# Altium integrated library TI Interface Display.IntLib: 133 symbols (part 4 of 16)
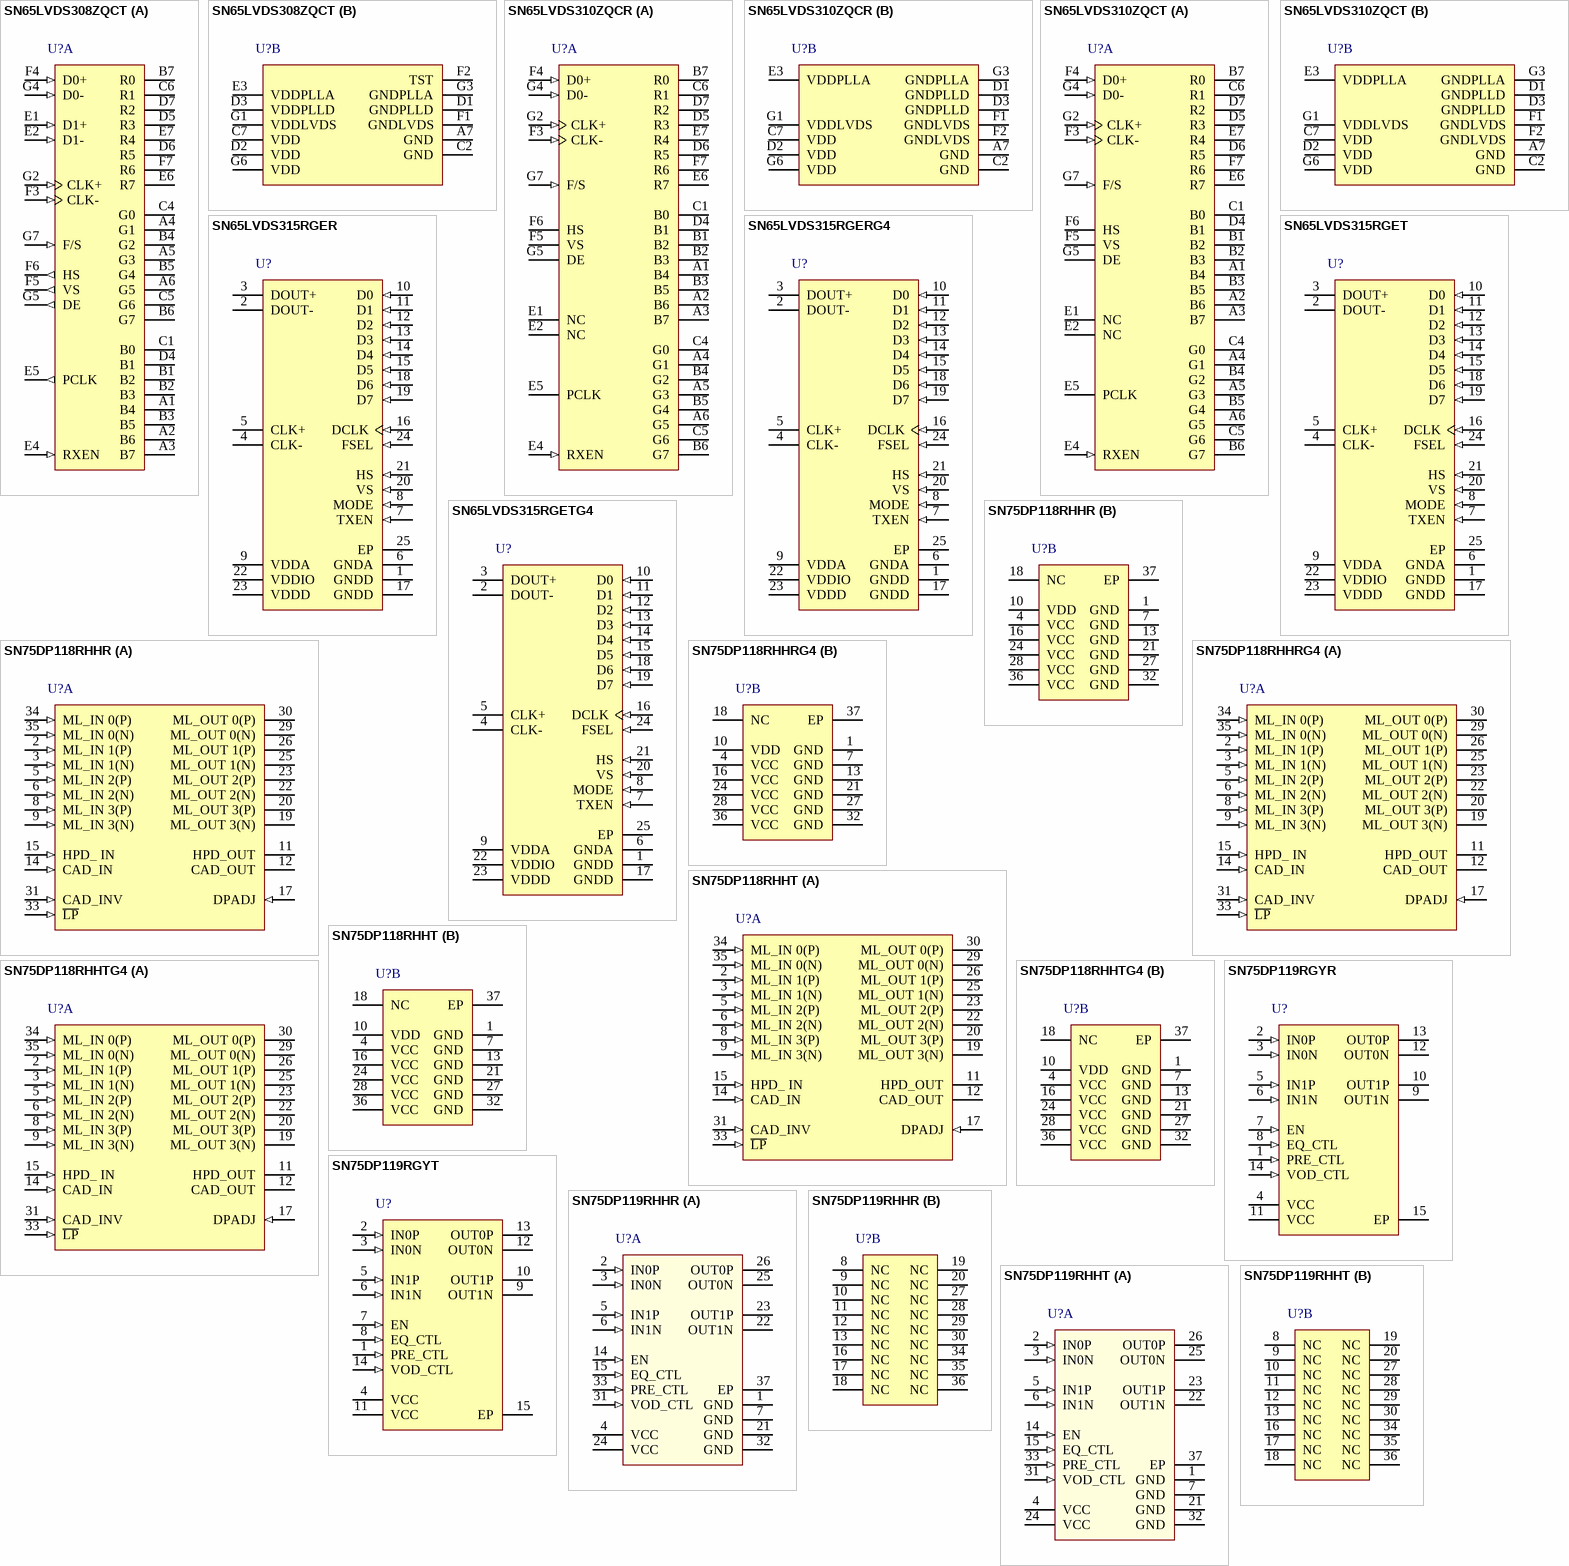
[diagram p17: symbols SN65LVDS308ZQCT to SN75DP119RHHT]

## SN65LVDS310ZQCR
designator U?
405 MB/s QVGA-HVGA 27-Bit Display Serial Interface Receiver with 1 Receiver Channel, 1.8 V, -40 to +85 degC, 48-pin BGA MICROSTAR JUNIOR (ZQC), Green (RoHS & no Sb/Br); Manufacturer: Texas Instruments; PartNumber: SN65LVDS310ZQCR; Data Throughput(MB/s): 405; Number of Parallel Outputs: 27; PLL Frequency(MHz): 4 - 15; Serial Data Receiver Channels: 1; SubFamily: FlatLink (LVDS for LCD); Supply Voltage(s)(V): 1.8; Type of Line Circuit: subLVDS; DatasheetVersion: SLLS836; PackageVersion: revA, Sep-2002; PackageReference: ZQC48; PackageDescription: 48-Ball Plastic Ball Grid Array, 4 x 4 mm Body, 0.5 mm Pitch, Pb-Free; Supplier 1: Digi-Key; Supplier Part Number 1: 296-21963-2-ND; Supplier 2: Digi-Key; Supplier Part Number 2: 296-21963-1-ND; Supplier 3: Digi-Key; Supplier Part Number 3: 296-21963-6-ND; Supplier 4: Newark; Supplier Part Number 4: 46M6903; Supplier 5: Mouser; Supplier Part Number 5: 595-SN65LVDS310ZQCR; Eco-Plan: Green (RoHS & no Sb/Br); Mounting Technology: Surface Mount; Code_JEDEC: MO-225; ComponentLink1Description: Datasheet; ComponentLink1URL: http://www.ti.com/general/docs/lit/getliterature.tsp?genericPartNumber=SN65LVDS310&fileType=pdf; ComponentLink2Description: URL Link1; ComponentLink2URL: SamplesURL:http://www.ti.com/product/sn65lvds310#samples
footprint ZQC48 (BGA, 48-Leads, Body 4x4mm, Pitch 0.5mm)
part A pins: A1 B4 (hiz) "Blue-pixel data", A2 B6 (hiz) "Blue-pixel data", A3 B7 (hiz) "Blue-pixel data", A4 G1 (hiz) "Green-pixel data", A5 G3 (hiz) "Green-pixel data", A6 G5 (hiz) "Green-pixel data", B1 B2 (hiz) "Blue-pixel data", B2 B3 (hiz) "Blue-pixel data", B3 B5 (hiz) "Blue-pixel data", B4 G2 (hiz) "Green-pixel data", B5 G4 (hiz) "Green-pixel data", B6 G7 (hiz) "Green-pixel data", B7 R0 (hiz) "Red-pixel data", C1 B0 (hiz) "Blue-pixel data", C4 G0 (hiz) "Green-pixel data", C5 G6 (hiz) "Green-pixel data", C6 R1 (hiz) "Red-pixel data", D4 B1 (hiz) "Blue-pixel data", D5 R3 (hiz) "Red-pixel data", D6 R5 (hiz) "Red-pixel data", D7 R2 (hiz) "Red-pixel data", E1 NC "No connection.", E2 NC "No connection.", E4 RXEN (in) "Disables the CMOS drivers and turns off the PLL, putting device in shutdown mode 1 - Receiver enabled 0 - Receiver disabled (shutdown)[see datasheet]", E5 PCLK (hiz) "Output pixel clock (rising clock polarity)", E6 R7 (hiz) "Red-pixel data", E7 R4 (hiz) "Red-pixel data", F3 CLK- (in) "SubLVDS input pixel clock; polarity is fixed.", F4 D0+ (in) "SubLVDS data link", F5 VS (hiz) "Vertical sync", F6 HS (hiz) "Horizontal sync", F7 R6 (hiz) "Red-pixel data", G2 CLK+ (in) "SubLVDS input pixel clock; polarity is fixed.", G4 D0- (in) "SubLVDS data link", G5 DE (hiz) "Data enable", G7 F/S (in) "CMOS bus rise time select 1 - fast output rise time 0 - slow output rise time"
part B pins: A7 GND (power) "Supply ground", C2 GND (power) "Supply ground", C7 VDD (power) "Supply voltage", D1 GNDPLLD (power) "PLL digital GND", D2 VDD (power) "Supply voltage", D3 GNDPLLD (power) "PLL digital GND", E3 VDDPLLA (power) "PLL analog supply voltage", F1 GNDLVDS (power) "SubLVDS ground", F2 GNDLVDS (power) "SubLVDS ground", G1 VDDLVDS (power) "SubLVDS I/O supply voltage", G3 GNDPLLA (power) "PLL analog GND", G6 VDD (power) "Supply voltage"

## SN65LVDS310ZQCT
designator U?
405 MB/s QVGA-HVGA 27-Bit Display Serial Interface Receiver with 1 Receiver Channel, 1.8 V, -40 to +85 degC, 48-pin BGAMICROSTARJUNIOR (ZQC), Green (RoHS & no Sb/Br); Manufacturer: Texas Instruments; PartNumber: SN65LVDS310ZQCT; Data Throughput(MB/s): 405; Number of Parallel Outputs: 27; PLL Frequency(MHz): 4 - 15; Serial Data Receiver Channels: 1; SubFamily: FlatLink (LVDS for LCD); Supply Voltage(s)(V): 1.8; Type of Line Circuit: subLVDS; DatasheetVersion: SLLS836; PackageVersion: revA, Sep-2002; PackageReference: ZQC48; PackageDescription: 48-Ball Plastic Ball Grid Array, 4 x 4 mm Body, 0.5 mm Pitch, Pb-Free; Supplier 1: Digi-Key; Supplier Part Number 1: SN65LVDS310ZQCT-ND; Supplier 2: Newark; Supplier Part Number 2: 50M8933; Supplier 3: Mouser; Supplier Part Number 3: 595-SN65LVDS310ZQCT; Eco-Plan: Green (RoHS & no Sb/Br); Mounting Technology: Surface Mount; Code_JEDEC: MO-225; ComponentLink1Description: Datasheet; ComponentLink1URL: http://www.ti.com/general/docs/lit/getliterature.tsp?genericPartNumber=SN65LVDS310&fileType=pdf; ComponentLink2Description: URL Link1; ComponentLink2URL: SamplesURL:http://www.ti.com/product/sn65lvds310#samples
footprint ZQC48 (BGA, 48-Leads, Body 4x4mm, Pitch 0.5mm)
part A pins: A1 B4 (hiz) "Blue-pixel data", A2 B6 (hiz) "Blue-pixel data", A3 B7 (hiz) "Blue-pixel data", A4 G1 (hiz) "Green-pixel data", A5 G3 (hiz) "Green-pixel data", A6 G5 (hiz) "Green-pixel data", B1 B2 (hiz) "Blue-pixel data", B2 B3 (hiz) "Blue-pixel data", B3 B5 (hiz) "Blue-pixel data", B4 G2 (hiz) "Green-pixel data", B5 G4 (hiz) "Green-pixel data", B6 G7 (hiz) "Green-pixel data", B7 R0 (hiz) "Red-pixel data", C1 B0 (hiz) "Blue-pixel data", C4 G0 (hiz) "Green-pixel data", C5 G6 (hiz) "Green-pixel data", C6 R1 (hiz) "Red-pixel data", D4 B1 (hiz) "Blue-pixel data", D5 R3 (hiz) "Red-pixel data", D6 R5 (hiz) "Red-pixel data", D7 R2 (hiz) "Red-pixel data", E1 NC "No connection.", E2 NC "No connection.", E4 RXEN (in) "Disables the CMOS drivers and turns off the PLL, putting device in shutdown mode 1 - Receiver enabled 0 - Receiver disabled (shutdown)[see datasheet]", E5 PCLK (hiz) "Output pixel clock (rising clock polarity)", E6 R7 (hiz) "Red-pixel data", E7 R4 (hiz) "Red-pixel data", F3 CLK- (in) "SubLVDS input pixel clock; polarity is fixed.", F4 D0+ (in) "SubLVDS data link", F5 VS (hiz) "Vertical sync", F6 HS (hiz) "Horizontal sync", F7 R6 (hiz) "Red-pixel data", G2 CLK+ (in) "SubLVDS input pixel clock; polarity is fixed.", G4 D0- (in) "SubLVDS data link", G5 DE (hiz) "Data enable", G7 F/S (in) "CMOS bus rise time select 1 - fast output rise time 0 - slow output rise time"
part B pins: A7 GND (power) "Supply ground", C2 GND (power) "Supply ground", C7 VDD (power) "Supply voltage", D1 GNDPLLD (power) "PLL digital GND", D2 VDD (power) "Supply voltage", D3 GNDPLLD (power) "PLL digital GND", E3 VDDPLLA (power) "PLL analog supply voltage", F1 GNDLVDS (power) "SubLVDS ground", F2 GNDLVDS (power) "SubLVDS ground", G1 VDDLVDS (power) "SubLVDS I/O supply voltage", G3 GNDPLLA (power) "PLL analog GND", G6 VDD (power) "Supply voltage"

## SN65LVDS315RGER
designator U?
208 MB/s CAMERA PARALLEL RGB TO MIPI CSI-1 SERIAL CONVERTER with 1 Transmitter Channels, 1.8 V, -40 to +85 degC, 24-pin VQFN (RGE), Green (RoHS & no Sb/Br); Manufacturer: Texas Instruments; PartNumber: SN65LVDS315RGER; Data Throughput(MB/s): 208; Number of Parallel Inputs: 8; PLL Frequency(MHz): 3.5 - 26; Serial Data Transmitter Channels: 1; SubFamily: FlatLink (LVDS for LCD); Supply Voltage(s)(V): 1.8; Type of Line Circuit: subLVDS; DatasheetVersion: SLLS881D; PackageVersion: revG, Jul-2011; PackageReference: RGE24-2700X2700TP; PackageDescription: 24-Pin Plastic Quad Flatpack No-Lead, 4 x 4 mm Body, 0.5 mm Pitch; Supplier 1: Digi-Key; Supplier Part Number 1: 296-23316-2-ND; Supplier 2: Digi-Key; Supplier Part Number 2: 296-23316-1-ND; Supplier 3: Digi-Key; Supplier Part Number 3: 296-23316-6-ND; Supplier 4: Newark; Supplier Part Number 4: 94M9579; Supplier 5: Mouser; Supplier Part Number 5: 595-SN65LVDS315RGER; Eco-Plan: Green (RoHS & no Sb/Br); Mounting Technology: Surface Mount; Code_JEDEC: MO-220; ComponentLink1Description: Datasheet; ComponentLink1URL: http://www.ti.com/general/docs/lit/getliterature.tsp?genericPartNumber=SN65LVDS315&fileType=pdf; ComponentLink2Description: URL Link1; ComponentLink2URL: SamplesURL:http://www.ti.com/product/sn65lvds315#samples
footprint RGE24-2700X2700TP (QFN, 24-Leads, Body 4x4mm, Pitch 0.5mm, Thermal Pad 2.7x2.7mm, TI Recommended)
pins: 1 GNDD (power) "Supply Ground for VDDIO and VDDD.", 2 DOUT- (hiz) "SubLVDS data link CSI-1 compliant (active during normal operation; high-impedance during power down or standby) DOUT is valid on the rising edge of CLK+.", 3 DOUT+ (hiz) "SubLVDS data link CSI-1 compliant (active during normal operation; high-impedance during power down or standby) DOUT is valid on the rising edge of CLK+.", 4 CLK- (hiz) "SubLVDS clock output (CSI-1 Mode 0 compliant).", 5 CLK+ (hiz) "SubLVDS clock output (CSI-1 Mode 0 compliant).", 6 GNDA (power) "PLL and SubLVDS Ground.", 7 TXEN (in) "Disables the subLVDS Drivers and turns off the PLL putting device in Shutdown mode. 1 - Transmitter enabled 0 - Transmitter disabled (shutdown)[see datasheet]", 8 MODE (in) "The mode pin enables line counting to generate proper EOF signalling in case VS and HS do not reset during the same DCLK cycle (0-line counter disable; 1 counter enabled). The impact MODE of the MODE pin setting is described (See Datasheet)", 9 VDDA (power) "PLL and SubLVDS I/O supply voltage (1.8 V only).", 10 D0 (in) "Data inputs for pixel data; These inputs are sampled on the falling DCLK edge; inputs incorporate bus hold [see datasheet]", 11 D1 (in) "Data inputs for pixel data; These inputs are sampled on the falling DCLK edge; inputs incorporate bus hold [see datasheet]", 12 D2 (in) "Data inputs for pixel data; These inputs are sampled on the falling DCLK edge; inputs incorporate bus hold [see datasheet]", 13 D3 (in) "Data inputs for pixel data; These inputs are sampled on the falling DCLK edge; inputs incorporate bus hold [see datasheet]", 14 D4 (in) "Data inputs for pixel data; These inputs are sampled on the falling DCLK edge; inputs incorporate bus hold [see datasheet]", 15 D5 (in) "Data inputs for pixel data; These inputs are sampled on the falling DCLK edge; inputs incorporate bus hold [see datasheet]", 16 DCLK (in) "Data input Clock; DCLK represents the camera pixel clock. All 8 pixel bits as well as VS and HS are latched into the device on the falling edge of DCLK (falling edge clocking) Input incorporates bus hold", 17 GNDD (power) "Supply Ground for VDDIO and VDDD.", 18 D6 (in) "Data inputs for pixel data; These inputs are sampled on the falling DCLK edge; inputs incorporate bus hold [see datasheet]", 19 D7 (in) "Data inputs for pixel data; These inputs are sampled on the falling DCLK edge; inputs incorporate bus hold [see datasheet]", 20 VS (in) "Vertical Sync (also called frame sync); Data input (high active). This input is sampled on every falling DCLK edge Input incorporates bus hold", 21 HS (in) "Horizontal Sync (also called line sync);  Data input (high active). This input is sampled on every falling DCLK edge Input incorporates bus hold", 22 VDDIO (power) "IO Supply Voltage for inputs D[0:7], HS, VS, and DCLK, (1.8 V up to 3.3 V)", 23 VDDD (power) "Digital supply voltage (1.8 V only).", 24 FSEL (in) "Frequency Select FSEL=0: DCLK input frequencies from 3.5 MHz to 13 MHz are supported FSEL=1: DCLK input frequencies from 7.0 MHz to 27 MHz are supported .Do not leave FSEL floating.", 25 EP (power) "Exposed pad."

## SN65LVDS315RGERG4
designator U?
208 MB/s CAMERA PARALLEL RGB TO MIPI CSI-1 SERIAL CONVERTER with 1 Transmitter Channels, 1.8 V, -40 to +85 degC, 24-pin VQFN (RGE), Green (RoHS & no Sb/Br); Manufacturer: Texas Instruments; PartNumber: SN65LVDS315RGERG4; Data Throughput(MB/s): 208; Number of Parallel Inputs: 8; PLL Frequency(MHz): 3.5 - 26; Serial Data Transmitter Channels: 1; SubFamily: FlatLink (LVDS for LCD); Supply Voltage(s)(V): 1.8; Type of Line Circuit: subLVDS; DatasheetVersion: SLLS881D; PackageVersion: revG, Jul-2011; PackageReference: RGE24-2700X2700TP; PackageDescription: 24-Pin Plastic Quad Flatpack No-Lead, 4 x 4 mm Body, 0.5 mm Pitch; Supplier 1: Digi-Key; Supplier Part Number 1: SN65LVDS315RGERG4-ND; Supplier 2: Mouser; Supplier Part Number 2: 595-N65LVDS315RGERG4; Eco-Plan: Green (RoHS & no Sb/Br); Mounting Technology: Surface Mount; Code_JEDEC: MO-220; ComponentLink1Description: Datasheet; ComponentLink1URL: http://www.ti.com/general/docs/lit/getliterature.tsp?genericPartNumber=SN65LVDS315&fileType=pdf; ComponentLink2Description: URL Link1; ComponentLink2URL: SamplesURL:http://www.ti.com/product/sn65lvds315#samples
footprint RGE24-2700X2700TP (QFN, 24-Leads, Body 4x4mm, Pitch 0.5mm, Thermal Pad 2.7x2.7mm, TI Recommended)
pins: 1 GNDD (power) "Supply Ground for VDDIO and VDDD.", 2 DOUT- (hiz) "SubLVDS data link CSI-1 compliant (active during normal operation; high-impedance during power down or standby) DOUT is valid on the rising edge of CLK+.", 3 DOUT+ (hiz) "SubLVDS data link CSI-1 compliant (active during normal operation; high-impedance during power down or standby) DOUT is valid on the rising edge of CLK+.", 4 CLK- (hiz) "SubLVDS clock output (CSI-1 Mode 0 compliant).", 5 CLK+ (hiz) "SubLVDS clock output (CSI-1 Mode 0 compliant).", 6 GNDA (power) "PLL and SubLVDS Ground.", 7 TXEN (in) "Disables the subLVDS Drivers and turns off the PLL putting device in Shutdown mode. 1 - Transmitter enabled 0 - Transmitter disabled (shutdown)[see datasheet]", 8 MODE (in) "The mode pin enables line counting to generate proper EOF signalling in case VS and HS do not reset during the same DCLK cycle (0-line counter disable; 1 counter enabled). The impact MODE of the MODE pin setting is described (See Datasheet)", 9 VDDA (power) "PLL and SubLVDS I/O supply voltage (1.8 V only).", 10 D0 (in) "Data inputs for pixel data; These inputs are sampled on the falling DCLK edge; inputs incorporate bus hold [see datasheet]", 11 D1 (in) "Data inputs for pixel data; These inputs are sampled on the falling DCLK edge; inputs incorporate bus hold [see datasheet]", 12 D2 (in) "Data inputs for pixel data; These inputs are sampled on the falling DCLK edge; inputs incorporate bus hold [see datasheet]", 13 D3 (in) "Data inputs for pixel data; These inputs are sampled on the falling DCLK edge; inputs incorporate bus hold [see datasheet]", 14 D4 (in) "Data inputs for pixel data; These inputs are sampled on the falling DCLK edge; inputs incorporate bus hold [see datasheet]", 15 D5 (in) "Data inputs for pixel data; These inputs are sampled on the falling DCLK edge; inputs incorporate bus hold [see datasheet]", 16 DCLK (in) "Data input Clock; DCLK represents the camera pixel clock. All 8 pixel bits as well as VS and HS are latched into the device on the falling edge of DCLK (falling edge clocking) Input incorporates bus hold", 17 GNDD (power) "Supply Ground for VDDIO and VDDD.", 18 D6 (in) "Data inputs for pixel data; These inputs are sampled on the falling DCLK edge; inputs incorporate bus hold [see datasheet]", 19 D7 (in) "Data inputs for pixel data; These inputs are sampled on the falling DCLK edge; inputs incorporate bus hold [see datasheet]", 20 VS (in) "Vertical Sync (also called frame sync); Data input (high active). This input is sampled on every falling DCLK edge Input incorporates bus hold", 21 HS (in) "Horizontal Sync (also called line sync);  Data input (high active). This input is sampled on every falling DCLK edge Input incorporates bus hold", 22 VDDIO (power) "IO Supply Voltage for inputs D[0:7], HS, VS, and DCLK, (1.8 V up to 3.3 V)", 23 VDDD (power) "Digital supply voltage (1.8 V only).", 24 FSEL (in) "Frequency Select FSEL=0: DCLK input frequencies from 3.5 MHz to 13 MHz are supported FSEL=1: DCLK input frequencies from 7.0 MHz to 27 MHz are supported .Do not leave FSEL floating.", 25 EP (power) "Exposed pad."

## SN65LVDS315RGET
designator U?
208 MB/s CAMERA PARALLEL RGB TO MIPI CSI-1 SERIAL CONVERTER with 1 Transmitter Channels, 1.8 V, -40 to +85 degC, 24-pin VQFN (RGE), Green (RoHS & no Sb/Br); Manufacturer: Texas Instruments; PartNumber: SN65LVDS315RGET; Data Throughput(MB/s): 208; Number of Parallel Inputs: 8; PLL Frequency(MHz): 3.5 - 26; Serial Data Transmitter Channels: 1; SubFamily: FlatLink (LVDS for LCD); Supply Voltage(s)(V): 1.8; Type of Line Circuit: subLVDS; DatasheetVersion: SLLS881D; PackageVersion: revG, Jul-2011; PackageReference: RGE24-2700X2700TP; PackageDescription: 24-Pin Plastic Quad Flatpack No-Lead, 4 x 4 mm Body, 0.5 mm Pitch; Supplier 1: Digi-Key; Supplier Part Number 1: 296-32223-2-ND; Supplier 2: Digi-Key; Supplier Part Number 2: 296-32223-1-ND; Supplier 3: Digi-Key; Supplier Part Number 3: 296-32223-6-ND; Supplier 4: Newark; Supplier Part Number 4: 94M9580; Supplier 5: Mouser; Supplier Part Number 5: 595-SN65LVDS315RGET; Eco-Plan: Green (RoHS & no Sb/Br); Mounting Technology: Surface Mount; Code_JEDEC: MO-220; ComponentLink1Description: Datasheet; ComponentLink1URL: http://www.ti.com/general/docs/lit/getliterature.tsp?genericPartNumber=SN65LVDS315&fileType=pdf; ComponentLink2Description: URL Link1; ComponentLink2URL: SamplesURL:http://www.ti.com/product/sn65lvds315#samples
footprint RGE24-2700X2700TP (QFN, 24-Leads, Body 4x4mm, Pitch 0.5mm, Thermal Pad 2.7x2.7mm, TI Recommended)
pins: 1 GNDD (power) "Supply Ground for VDDIO and VDDD.", 2 DOUT- (hiz) "SubLVDS data link CSI-1 compliant (active during normal operation; high-impedance during power down or standby) DOUT is valid on the rising edge of CLK+.", 3 DOUT+ (hiz) "SubLVDS data link CSI-1 compliant (active during normal operation; high-impedance during power down or standby) DOUT is valid on the rising edge of CLK+.", 4 CLK- (hiz) "SubLVDS clock output (CSI-1 Mode 0 compliant).", 5 CLK+ (hiz) "SubLVDS clock output (CSI-1 Mode 0 compliant).", 6 GNDA (power) "PLL and SubLVDS Ground.", 7 TXEN (in) "Disables the subLVDS Drivers and turns off the PLL putting device in Shutdown mode. 1 - Transmitter enabled 0 - Transmitter disabled (shutdown)[see datasheet]", 8 MODE (in) "The mode pin enables line counting to generate proper EOF signalling in case VS and HS do not reset during the same DCLK cycle (0-line counter disable; 1 counter enabled). The impact MODE of the MODE pin setting is described (See Datasheet)", 9 VDDA (power) "PLL and SubLVDS I/O supply voltage (1.8 V only).", 10 D0 (in) "Data inputs for pixel data; These inputs are sampled on the falling DCLK edge; inputs incorporate bus hold [see datasheet]", 11 D1 (in) "Data inputs for pixel data; These inputs are sampled on the falling DCLK edge; inputs incorporate bus hold [see datasheet]", 12 D2 (in) "Data inputs for pixel data; These inputs are sampled on the falling DCLK edge; inputs incorporate bus hold [see datasheet]", 13 D3 (in) "Data inputs for pixel data; These inputs are sampled on the falling DCLK edge; inputs incorporate bus hold [see datasheet]", 14 D4 (in) "Data inputs for pixel data; These inputs are sampled on the falling DCLK edge; inputs incorporate bus hold [see datasheet]", 15 D5 (in) "Data inputs for pixel data; These inputs are sampled on the falling DCLK edge; inputs incorporate bus hold [see datasheet]", 16 DCLK (in) "Data input Clock; DCLK represents the camera pixel clock. All 8 pixel bits as well as VS and HS are latched into the device on the falling edge of DCLK (falling edge clocking) Input incorporates bus hold", 17 GNDD (power) "Supply Ground for VDDIO and VDDD.", 18 D6 (in) "Data inputs for pixel data; These inputs are sampled on the falling DCLK edge; inputs incorporate bus hold [see datasheet]", 19 D7 (in) "Data inputs for pixel data; These inputs are sampled on the falling DCLK edge; inputs incorporate bus hold [see datasheet]", 20 VS (in) "Vertical Sync (also called frame sync); Data input (high active). This input is sampled on every falling DCLK edge Input incorporates bus hold", 21 HS (in) "Horizontal Sync (also called line sync);  Data input (high active). This input is sampled on every falling DCLK edge Input incorporates bus hold", 22 VDDIO (power) "IO Supply Voltage for inputs D[0:7], HS, VS, and DCLK, (1.8 V up to 3.3 V)", 23 VDDD (power) "Digital supply voltage (1.8 V only).", 24 FSEL (in) "Frequency Select FSEL=0: DCLK input frequencies from 3.5 MHz to 13 MHz are supported FSEL=1: DCLK input frequencies from 7.0 MHz to 27 MHz are supported .Do not leave FSEL floating.", 25 EP (power) "Exposed pad."

## SN65LVDS315RGETG4
designator U?
208 MB/s CAMERA PARALLEL RGB TO MIPI CSI-1 SERIAL CONVERTER with 1 Transmitter Channels, 1.8 V, -40 to +85 degC, 24-pin VQFN (RGE), Green (RoHS & no Sb/Br); Manufacturer: Texas Instruments; PartNumber: SN65LVDS315RGETG4; Data Throughput(MB/s): 208; Number of Parallel Inputs: 8; PLL Frequency(MHz): 3.5 - 26; Serial Data Transmitter Channels: 1; SubFamily: FlatLink (LVDS for LCD); Supply Voltage(s)(V): 1.8; Type of Line Circuit: subLVDS; DatasheetVersion: SLLS881D; PackageVersion: revG, Jul-2011; PackageReference: RGE24-2700X2700TP; PackageDescription: 24-Pin Plastic Quad Flatpack No-Lead, 4 x 4 mm Body, 0.5 mm Pitch; Supplier 1: Digi-Key; Supplier Part Number 1: SN65LVDS315RGETG4-ND; Supplier 2: Newark; Supplier Part Number 2: 03P4954; Supplier 3: Mouser; Supplier Part Number 3: 595-N65LVDS315RGETG4; Eco-Plan: Green (RoHS & no Sb/Br); Mounting Technology: Surface Mount; Code_JEDEC: MO-220; ComponentLink1Description: Datasheet; ComponentLink1URL: http://www.ti.com/general/docs/lit/getliterature.tsp?genericPartNumber=SN65LVDS315&fileType=pdf; ComponentLink2Description: URL Link1; ComponentLink2URL: SamplesURL:http://www.ti.com/product/sn65lvds315#samples
footprint RGE24-2700X2700TP (QFN, 24-Leads, Body 4x4mm, Pitch 0.5mm, Thermal Pad 2.7x2.7mm, TI Recommended)
pins: 1 GNDD (power) "Supply Ground for VDDIO and VDDD.", 2 DOUT- (hiz) "SubLVDS data link CSI-1 compliant (active during normal operation; high-impedance during power down or standby) DOUT is valid on the rising edge of CLK+.", 3 DOUT+ (hiz) "SubLVDS data link CSI-1 compliant (active during normal operation; high-impedance during power down or standby) DOUT is valid on the rising edge of CLK+.", 4 CLK- (hiz) "SubLVDS clock output (CSI-1 Mode 0 compliant).", 5 CLK+ (hiz) "SubLVDS clock output (CSI-1 Mode 0 compliant).", 6 GNDA (power) "PLL and SubLVDS Ground.", 7 TXEN (in) "Disables the subLVDS Drivers and turns off the PLL putting device in Shutdown mode. 1 - Transmitter enabled 0 - Transmitter disabled (shutdown)[see datasheet]", 8 MODE (in) "The mode pin enables line counting to generate proper EOF signalling in case VS and HS do not reset during the same DCLK cycle (0-line counter disable; 1 counter enabled). The impact MODE of the MODE pin setting is described (See Datasheet)", 9 VDDA (power) "PLL and SubLVDS I/O supply voltage (1.8 V only).", 10 D0 (in) "Data inputs for pixel data; These inputs are sampled on the falling DCLK edge; inputs incorporate bus hold [see datasheet]", 11 D1 (in) "Data inputs for pixel data; These inputs are sampled on the falling DCLK edge; inputs incorporate bus hold [see datasheet]", 12 D2 (in) "Data inputs for pixel data; These inputs are sampled on the falling DCLK edge; inputs incorporate bus hold [see datasheet]", 13 D3 (in) "Data inputs for pixel data; These inputs are sampled on the falling DCLK edge; inputs incorporate bus hold [see datasheet]", 14 D4 (in) "Data inputs for pixel data; These inputs are sampled on the falling DCLK edge; inputs incorporate bus hold [see datasheet]", 15 D5 (in) "Data inputs for pixel data; These inputs are sampled on the falling DCLK edge; inputs incorporate bus hold [see datasheet]", 16 DCLK (in) "Data input Clock; DCLK represents the camera pixel clock. All 8 pixel bits as well as VS and HS are latched into the device on the falling edge of DCLK (falling edge clocking) Input incorporates bus hold", 17 GNDD (power) "Supply Ground for VDDIO and VDDD.", 18 D6 (in) "Data inputs for pixel data; These inputs are sampled on the falling DCLK edge; inputs incorporate bus hold [see datasheet]", 19 D7 (in) "Data inputs for pixel data; These inputs are sampled on the falling DCLK edge; inputs incorporate bus hold [see datasheet]", 20 VS (in) "Vertical Sync (also called frame sync); Data input (high active). This input is sampled on every falling DCLK edge Input incorporates bus hold", 21 HS (in) "Horizontal Sync (also called line sync);  Data input (high active). This input is sampled on every falling DCLK edge Input incorporates bus hold", 22 VDDIO (power) "IO Supply Voltage for inputs D[0:7], HS, VS, and DCLK, (1.8 V up to 3.3 V)", 23 VDDD (power) "Digital supply voltage (1.8 V only).", 24 FSEL (in) "Frequency Select FSEL=0: DCLK input frequencies from 3.5 MHz to 13 MHz are supported FSEL=1: DCLK input frequencies from 7.0 MHz to 27 MHz are supported .Do not leave FSEL floating.", 25 EP (power) "Exposed pad."

## SN75DP118RHHR
designator U?
Display Port 1:1 Repeater with 1 Dual Mode Output, -40 to +85 degC, 36-pin VQFN (RHH), Green (RoHS & no Sb/Br); Manufacturer: Texas Instruments; PartNumber: SN75DP118RHHR; No. of DisplayPort Dual Mode Inputs: 1; DatasheetVersion: SLLS916B; PackageVersion: revE,  Jun-2011; PackageReference: RHH36-4100X4100TP; PackageDescription: 36-Pin Plastic Quad Flatpack No-Lead, 6 x 6 mm Body, 0.5 mm Pitch; Supplier 1: Digi-Key; Supplier Part Number 1: 296-23774-2-ND; Supplier 2: Digi-Key; Supplier Part Number 2: 296-23774-1-ND; Supplier 3: Digi-Key; Supplier Part Number 3: 296-23774-6-ND; Supplier 4: Mouser; Supplier Part Number 4: 595-SN75DP118RHHR; No. of DisplayPort Dual Mode Outputs: 1; SubFamily: DisplayPort; Mounting Technology: Surface Mount; Code_JEDEC: MO-220; ComponentLink1Description: Datasheet; ComponentLink1URL: http://www.ti.com/general/docs/lit/getliterature.tsp?genericPartNumber=SN75DP118&fileType=pdf
footprint RHH36-4100X4100TP (QFN, 36-Leads, Body 6x6mm, Pitch 0.5mm, Thermal Pad 4.15x4.15mm, TI Recommended)
part A pins: 2 ML_IN 1(P) (in) "DisplayPort Main Link Channel 1 Differential Input", 3 ML_IN 1(N) (in) "DisplayPort Main Link Channel 1 Differential Input", 5 ML_IN 2(P) (in) "DisplayPort Main Link Channel 2 Differential Input", 6 ML_IN 2(N) (in) "DisplayPort Main Link Channel 2 Differential Input", 8 ML_IN 3(P) (in) "DisplayPort Main Link Channel 3 Differential Input", 9 ML_IN 3(N) (in) "DisplayPort Main Link Channel 3 Differential Input", 11 HPD_OUT (hiz) "Hot Plug Detect Output to the DisplayPort Source", 12 CAD_OUT (hiz) "Cable Adapter Detect Output to the DisplayPort Source", 14 CAD_IN (in) "Cable Adapter Detect Input from the DisplayPort Connector", 15 HPD_ IN (in) "Hot Plug Detect Input to the DisplayPort Source", 17 DPADJ (in) "DisplayPort Main Link Output Gain Adjustment", 19 ML_OUT 3(N) (hiz) "DisplayPort Main Link Port A Channel 3 Differential Output", 20 ML_OUT 3(P) (hiz) "DisplayPort Main Link Port A Channel 3 Differential Output", 22 ML_OUT 2(N) (hiz) "DisplayPort Main Link Port A Channel 2 Differential Output", 23 ML_OUT 2(P) (hiz) "DisplayPort Main Link Port A Channel 2 Differential Output", 25 ML_OUT 1(N) (hiz) "DisplayPort Main Link Port A Channel 1 Differential Output", 26 ML_OUT 1(P) (hiz) "DisplayPort Main Link Port A Channel 1 Differential Output", 29 ML_OUT 0(N) (hiz) "DisplayPort Main Link Port A Channel 0 Differential Output", 30 ML_OUT 0(P) (hiz) "DisplayPort Main Link Port A Channel 0 Differential Output", 31 CAD_INV (in) "Output Port Priority selection", 33 ~{LP} (in) "Low Power Select Bar", 34 ML_IN 0(P) (in) "DisplayPort Main Link Channel 0 Differential Input", 35 ML_IN 0(N) (in) "DisplayPort Main Link Channel 0 Differential Input"
part B pins: 1 GND (power) "Ground", 4 VCC (power) "Primary Supply Voltage", 7 GND (power) "Ground", 10 VDD (power) "HPD and CAD Output Voltage", 13 GND (power) "Ground", 16 VCC (power) "Primary Supply Voltage", 18 NC "Not Connected", 21 GND (power) "Ground", 24 VCC (power) "Primary Supply Voltage", 27 GND (power) "Ground", 28 VCC (power) "Primary Supply Voltage", 32 GND (power) "Ground", 36 VCC (power) "Primary Supply Voltage", 37 EP "Exposed Pad"

## SN75DP118RHHRG4
designator U?
Display Port 1:1 Repeater with 1 Dual Mode Output, -40 to +85 degC, 36-pin VQFN (RHH), Green (RoHS & no Sb/Br); Manufacturer: Texas Instruments; PartNumber: SN75DP118RHHRG4; No. of DisplayPort Dual Mode Inputs: 1; DatasheetVersion: SLLS916B; PackageVersion: revE,  Jun-2011; PackageReference: RHH36-4100X4100TP; PackageDescription: 36-Pin Plastic Quad Flatpack No-Lead, 6 x 6 mm Body, 0.5 mm Pitch; Supplier 1: Digi-Key; Supplier Part Number 1: SN75DP118RHHRG4-ND; Supplier 2: Mouser; Supplier Part Number 2: 595-SN75DP118RHHRG4; No. of DisplayPort Dual Mode Outputs: 1; SubFamily: DisplayPort; Mounting Technology: Surface Mount; Code_JEDEC: MO-220; ComponentLink1Description: Datasheet; ComponentLink1URL: http://www.ti.com/general/docs/lit/getliterature.tsp?genericPartNumber=SN75DP118&fileType=pdf
footprint RHH36-4100X4100TP (QFN, 36-Leads, Body 6x6mm, Pitch 0.5mm, Thermal Pad 4.15x4.15mm, TI Recommended)
part A pins: 2 ML_IN 1(P) (in) "DisplayPort Main Link Channel 1 Differential Input", 3 ML_IN 1(N) (in) "DisplayPort Main Link Channel 1 Differential Input", 5 ML_IN 2(P) (in) "DisplayPort Main Link Channel 2 Differential Input", 6 ML_IN 2(N) (in) "DisplayPort Main Link Channel 2 Differential Input", 8 ML_IN 3(P) (in) "DisplayPort Main Link Channel 3 Differential Input", 9 ML_IN 3(N) (in) "DisplayPort Main Link Channel 3 Differential Input", 11 HPD_OUT (hiz) "Hot Plug Detect Output to the DisplayPort Source", 12 CAD_OUT (hiz) "Cable Adapter Detect Output to the DisplayPort Source", 14 CAD_IN (in) "Cable Adapter Detect Input from the DisplayPort Connector", 15 HPD_ IN (in) "Hot Plug Detect Input to the DisplayPort Source", 17 DPADJ (in) "DisplayPort Main Link Output Gain Adjustment", 19 ML_OUT 3(N) (hiz) "DisplayPort Main Link Port A Channel 3 Differential Output", 20 ML_OUT 3(P) (hiz) "DisplayPort Main Link Port A Channel 3 Differential Output", 22 ML_OUT 2(N) (hiz) "DisplayPort Main Link Port A Channel 2 Differential Output", 23 ML_OUT 2(P) (hiz) "DisplayPort Main Link Port A Channel 2 Differential Output", 25 ML_OUT 1(N) (hiz) "DisplayPort Main Link Port A Channel 1 Differential Output", 26 ML_OUT 1(P) (hiz) "DisplayPort Main Link Port A Channel 1 Differential Output", 29 ML_OUT 0(N) (hiz) "DisplayPort Main Link Port A Channel 0 Differential Output", 30 ML_OUT 0(P) (hiz) "DisplayPort Main Link Port A Channel 0 Differential Output", 31 CAD_INV (in) "Output Port Priority selection", 33 ~{LP} (in) "Low Power Select Bar", 34 ML_IN 0(P) (in) "DisplayPort Main Link Channel 0 Differential Input", 35 ML_IN 0(N) (in) "DisplayPort Main Link Channel 0 Differential Input"
part B pins: 1 GND (power) "Ground", 4 VCC (power) "Primary Supply Voltage", 7 GND (power) "Ground", 10 VDD (power) "HPD and CAD Output Voltage", 13 GND (power) "Ground", 16 VCC (power) "Primary Supply Voltage", 18 NC "Not Connected", 21 GND (power) "Ground", 24 VCC (power) "Primary Supply Voltage", 27 GND (power) "Ground", 28 VCC (power) "Primary Supply Voltage", 32 GND (power) "Ground", 36 VCC (power) "Primary Supply Voltage", 37 EP "Exposed Pad"

## SN75DP118RHHT
designator U?
Display Port 1:1 Repeater with 1 Dual Mode Output, -40 to +85 degC, 36-pin VQFN (RHH), Green (RoHS & no Sb/Br); Manufacturer: Texas Instruments; PartNumber: SN75DP118RHHT; No. of DisplayPort Dual Mode Inputs: 1; DatasheetVersion: SLLS916B; PackageVersion: revE,  Jun-2011; PackageReference: RHH36-4100X4100TP; PackageDescription: 36-Pin Plastic Quad Flatpack No-Lead, 6 x 6 mm Body, 0.5 mm Pitch; Supplier 1: Digi-Key; Supplier Part Number 1: SN75DP118RHHT-ND; Supplier 2: Mouser; Supplier Part Number 2: 595-SN75DP118RHHT; No. of DisplayPort Dual Mode Outputs: 1; SubFamily: DisplayPort; Mounting Technology: Surface Mount; Code_JEDEC: MO-220; ComponentLink1Description: Datasheet; ComponentLink1URL: http://www.ti.com/general/docs/lit/getliterature.tsp?genericPartNumber=SN75DP118&fileType=pdf
footprint RHH36-4100X4100TP (QFN, 36-Leads, Body 6x6mm, Pitch 0.5mm, Thermal Pad 4.15x4.15mm, TI Recommended)
part A pins: 2 ML_IN 1(P) (in) "DisplayPort Main Link Channel 1 Differential Input", 3 ML_IN 1(N) (in) "DisplayPort Main Link Channel 1 Differential Input", 5 ML_IN 2(P) (in) "DisplayPort Main Link Channel 2 Differential Input", 6 ML_IN 2(N) (in) "DisplayPort Main Link Channel 2 Differential Input", 8 ML_IN 3(P) (in) "DisplayPort Main Link Channel 3 Differential Input", 9 ML_IN 3(N) (in) "DisplayPort Main Link Channel 3 Differential Input", 11 HPD_OUT (hiz) "Hot Plug Detect Output to the DisplayPort Source", 12 CAD_OUT (hiz) "Cable Adapter Detect Output to the DisplayPort Source", 14 CAD_IN (in) "Cable Adapter Detect Input from the DisplayPort Connector", 15 HPD_ IN (in) "Hot Plug Detect Input to the DisplayPort Source", 17 DPADJ (in) "DisplayPort Main Link Output Gain Adjustment", 19 ML_OUT 3(N) (hiz) "DisplayPort Main Link Port A Channel 3 Differential Output", 20 ML_OUT 3(P) (hiz) "DisplayPort Main Link Port A Channel 3 Differential Output", 22 ML_OUT 2(N) (hiz) "DisplayPort Main Link Port A Channel 2 Differential Output", 23 ML_OUT 2(P) (hiz) "DisplayPort Main Link Port A Channel 2 Differential Output", 25 ML_OUT 1(N) (hiz) "DisplayPort Main Link Port A Channel 1 Differential Output", 26 ML_OUT 1(P) (hiz) "DisplayPort Main Link Port A Channel 1 Differential Output", 29 ML_OUT 0(N) (hiz) "DisplayPort Main Link Port A Channel 0 Differential Output", 30 ML_OUT 0(P) (hiz) "DisplayPort Main Link Port A Channel 0 Differential Output", 31 CAD_INV (in) "Output Port Priority selection", 33 ~{LP} (in) "Low Power Select Bar", 34 ML_IN 0(P) (in) "DisplayPort Main Link Channel 0 Differential Input", 35 ML_IN 0(N) (in) "DisplayPort Main Link Channel 0 Differential Input"
part B pins: 1 GND (power) "Ground", 4 VCC (power) "Primary Supply Voltage", 7 GND (power) "Ground", 10 VDD (power) "HPD and CAD Output Voltage", 13 GND (power) "Ground", 16 VCC (power) "Primary Supply Voltage", 18 NC "Not Connected", 21 GND (power) "Ground", 24 VCC (power) "Primary Supply Voltage", 27 GND (power) "Ground", 28 VCC (power) "Primary Supply Voltage", 32 GND (power) "Ground", 36 VCC (power) "Primary Supply Voltage", 37 EP "Exposed Pad"

## SN75DP118RHHTG4
designator U?
Display Port 1:1 Repeater with 1 Dual Mode Output, -40 to +85 degC, 36-pin VQFN (RHH), Green (RoHS & no Sb/Br); Manufacturer: Texas Instruments; PartNumber: SN75DP118RHHTG4; No. of DisplayPort Dual Mode Inputs: 1; DatasheetVersion: SLLS916B; PackageVersion: revE,  Jun-2011; PackageReference: RHH36-4100X4100TP; PackageDescription: 36-Pin Plastic Quad Flatpack No-Lead, 6 x 6 mm Body, 0.5 mm Pitch; Supplier 1: Digi-Key; Supplier Part Number 1: SN75DP118RHHTG4-ND; Supplier 2: Mouser; Supplier Part Number 2: 595-SN75DP118RHHTG4; No. of DisplayPort Dual Mode Outputs: 1; SubFamily: DisplayPort; Mounting Technology: Surface Mount; Code_JEDEC: MO-220; ComponentLink1Description: Datasheet; ComponentLink1URL: http://www.ti.com/general/docs/lit/getliterature.tsp?genericPartNumber=SN75DP118&fileType=pdf
footprint RHH36-4100X4100TP (QFN, 36-Leads, Body 6x6mm, Pitch 0.5mm, Thermal Pad 4.15x4.15mm, TI Recommended)
part A pins: 2 ML_IN 1(P) (in) "DisplayPort Main Link Channel 1 Differential Input", 3 ML_IN 1(N) (in) "DisplayPort Main Link Channel 1 Differential Input", 5 ML_IN 2(P) (in) "DisplayPort Main Link Channel 2 Differential Input", 6 ML_IN 2(N) (in) "DisplayPort Main Link Channel 2 Differential Input", 8 ML_IN 3(P) (in) "DisplayPort Main Link Channel 3 Differential Input", 9 ML_IN 3(N) (in) "DisplayPort Main Link Channel 3 Differential Input", 11 HPD_OUT (hiz) "Hot Plug Detect Output to the DisplayPort Source", 12 CAD_OUT (hiz) "Cable Adapter Detect Output to the DisplayPort Source", 14 CAD_IN (in) "Cable Adapter Detect Input from the DisplayPort Connector", 15 HPD_ IN (in) "Hot Plug Detect Input to the DisplayPort Source", 17 DPADJ (in) "DisplayPort Main Link Output Gain Adjustment", 19 ML_OUT 3(N) (hiz) "DisplayPort Main Link Port A Channel 3 Differential Output", 20 ML_OUT 3(P) (hiz) "DisplayPort Main Link Port A Channel 3 Differential Output", 22 ML_OUT 2(N) (hiz) "DisplayPort Main Link Port A Channel 2 Differential Output", 23 ML_OUT 2(P) (hiz) "DisplayPort Main Link Port A Channel 2 Differential Output", 25 ML_OUT 1(N) (hiz) "DisplayPort Main Link Port A Channel 1 Differential Output", 26 ML_OUT 1(P) (hiz) "DisplayPort Main Link Port A Channel 1 Differential Output", 29 ML_OUT 0(N) (hiz) "DisplayPort Main Link Port A Channel 0 Differential Output", 30 ML_OUT 0(P) (hiz) "DisplayPort Main Link Port A Channel 0 Differential Output", 31 CAD_INV (in) "Output Port Priority selection", 33 ~{LP} (in) "Low Power Select Bar", 34 ML_IN 0(P) (in) "DisplayPort Main Link Channel 0 Differential Input", 35 ML_IN 0(N) (in) "DisplayPort Main Link Channel 0 Differential Input"
part B pins: 1 GND (power) "Ground", 4 VCC (power) "Primary Supply Voltage", 7 GND (power) "Ground", 10 VDD (power) "HPD and CAD Output Voltage", 13 GND (power) "Ground", 16 VCC (power) "Primary Supply Voltage", 18 NC "Not Connected", 21 GND (power) "Ground", 24 VCC (power) "Primary Supply Voltage", 27 GND (power) "Ground", 28 VCC (power) "Primary Supply Voltage", 32 GND (power) "Ground", 36 VCC (power) "Primary Supply Voltage", 37 EP "Exposed Pad"

## SN75DP119RGYR
designator U?
Embedded DisplayPort (eDP) Repeater with 1 Dual Mode Output, -40 to +85 degC, 14-pin VQFN (RGY), Green (RoHS & no Sb/Br); Manufacturer: Texas Instruments; PartNumber: SN75DP119RGYR; No. of DisplayPort Dual Mode Inputs: 1; DatasheetVersion: SLLSE12; PackageVersion: revI, Jun-2011; PackageReference: RGY14-2050X2050TP; PackageDescription: 14-Leads Plastic Quad Flatpack No-Lead, 3.5 x 3.5 x 0.9 mm Body, 0.5 mm Pitch; Supplier 1: Digi-Key; Supplier Part Number 1: 296-25579-2-ND; Supplier 2: Digi-Key; Supplier Part Number 2: 296-25579-1-ND; Supplier 3: Digi-Key; Supplier Part Number 3: 296-25579-6-ND; Supplier 4: Mouser; Supplier Part Number 4: 595-SN75DP119RGYR; No. of DisplayPort Dual Mode Outputs: 1; SubFamily: DisplayPort; Mounting Technology: Surface Mount; Code_JEDEC: MO-241-BA; ComponentLink1Description: Datasheet; ComponentLink1URL: http://www.ti.com/general/docs/lit/getliterature.tsp?genericPartNumber=SN75DP119&fileType=pdf
footprint RGY14-2050X2050TP (QFN, 14-Leads, Body 3.5x3.5mm, Pitch 0.5mm, Thermal Pad 2.05x2.05mm, TI Recommended)
pins: 1 PRE_CTL (in) "Configures the output pre-emphasis level. This input is a 3-level input. If the input is left open, the internal  input biasing pulls the input level to VCC/2. The input can also be pulled high or low externally. This allows (See Datasheet)", 2 IN0P (in) "DisplayPort Main Link Channel 0 Differential Input", 3 IN0N (in) "DisplayPort Main Link Channel 0 Differential Input", 4 VCC (power) "3.3V Supply", 5 IN1P (in) "DisplayPort Main Link Channel 1 Differential Input", 6 IN1N (in) "DisplayPort Main Link Channel 1 Differential Input", 7 EN (in) "Enable. This input is a 3-level input. If the input is left open, the internal input biasing pulls the input level to VCC/2. The input can also be pulled high or low externally. This allows to configure the device for (See Datasheet)", 8 EQ_CTL (in) "Configures the EQ input setting for both differential inputs. This input is a 3-level input. If the input is left open, the internal input biasing pulls the input level to VCC/2. The input can also be pulled high or low (See Datasheet)", 9 OUT1N (hiz) "DisplayPort Main Link Channel 1 Differential Output", 10 OUT1P (hiz) "DisplayPort Main Link Channel 1 Differential Output", 11 VCC (power) "3.3V Supply", 12 OUT0N (hiz) "DisplayPort Main Link Channel 0 Differential Output", 13 OUT0P (hiz) "DisplayPort Main Link Channel 0 Differential Output", 14 VOD_CTL (in) "Configures the output amplitude VOD level. This input is a 3-level input. If the input is left open, the internal input biasing pulls the input level to VCC/2. The input can also be pulled high or low externally. This allows (See Datasheet)", 15 EP (power) "Exposed Pad"

## SN75DP119RGYT
designator U?
Embedded DisplayPort (eDP) Repeater with 1 Dual Mode Output, -40 to +85 degC, 14-pin VQFN (RGY), Green (RoHS & no Sb/Br); Manufacturer: Texas Instruments; PartNumber: SN75DP119RGYT; No. of DisplayPort Dual Mode Inputs: 1; DatasheetVersion: SLLSE12; PackageVersion: revI, Jun-2011; PackageReference: RGY14-2050X2050TP; PackageDescription: 14-Leads Plastic Quad Flatpack No-Lead, 3.5 x 3.5 x 0.9 mm Body, 0.5 mm Pitch; Supplier 1: Digi-Key; Supplier Part Number 1: SN75DP119RGYT-ND; Supplier 2: Mouser; Supplier Part Number 2: 595-SN75DP119RGYT; No. of DisplayPort Dual Mode Outputs: 1; SubFamily: DisplayPort; Mounting Technology: Surface Mount; Code_JEDEC: MO-241-BA; ComponentLink1Description: Datasheet; ComponentLink1URL: http://www.ti.com/general/docs/lit/getliterature.tsp?genericPartNumber=SN75DP119&fileType=pdf
footprint RGY14-2050X2050TP (QFN, 14-Leads, Body 3.5x3.5mm, Pitch 0.5mm, Thermal Pad 2.05x2.05mm, TI Recommended)
pins: 1 PRE_CTL (in) "Configures the output pre-emphasis level. This input is a 3-level input. If the input is left open, the internal  input biasing pulls the input level to VCC/2. The input can also be pulled high or low externally. This allows (See Datasheet)", 2 IN0P (in) "DisplayPort Main Link Channel 0 Differential Input", 3 IN0N (in) "DisplayPort Main Link Channel 0 Differential Input", 4 VCC (power) "3.3V Supply", 5 IN1P (in) "DisplayPort Main Link Channel 1 Differential Input", 6 IN1N (in) "DisplayPort Main Link Channel 1 Differential Input", 7 EN (in) "Enable. This input is a 3-level input. If the input is left open, the internal input biasing pulls the input level to VCC/2. The input can also be pulled high or low externally. This allows to configure the device for (See Datasheet)", 8 EQ_CTL (in) "Configures the EQ input setting for both differential inputs. This input is a 3-level input. If the input is left open, the internal input biasing pulls the input level to VCC/2. The input can also be pulled high or low (See Datasheet)", 9 OUT1N (hiz) "DisplayPort Main Link Channel 1 Differential Output", 10 OUT1P (hiz) "DisplayPort Main Link Channel 1 Differential Output", 11 VCC (power) "3.3V Supply", 12 OUT0N (hiz) "DisplayPort Main Link Channel 0 Differential Output", 13 OUT0P (hiz) "DisplayPort Main Link Channel 0 Differential Output", 14 VOD_CTL (in) "Configures the output amplitude VOD level. This input is a 3-level input. If the input is left open, the internal input biasing pulls the input level to VCC/2. The input can also be pulled high or low externally. This allows (See Datasheet)", 15 EP (power) "Exposed Pad"

## SN75DP119RHHR
designator U?
Embedded DisplayPort (eDP) Repeater with 1 Dual Mode Output, -40 to +85 degC, 36-pin QFN (RHH), Green (RoHS & no Sb/Br); Manufacturer: Texas Instruments; PartNumber: SN75DP119RHHR; No. of DisplayPort Dual Mode Inputs: 1; DatasheetVersion: SLLSE12; PackageVersion: revE,  Jun-2011; PackageReference: RHH36-4100X4100TP; PackageDescription: 36-Pin Plastic Quad Flatpack No-Lead, 6 x 6 mm Body, 0.5 mm Pitch; Supplier 1: Digi-Key; Supplier Part Number 1: 296-25436-2-ND; Supplier 2: Digi-Key; Supplier Part Number 2: 296-25436-1-ND; Supplier 3: Digi-Key; Supplier Part Number 3: 296-25436-6-ND; Supplier 4: Newark; Supplier Part Number 4: 55R6876; Supplier 5: Mouser; Supplier Part Number 5: 595-SN75DP119RHHR; No. of DisplayPort Dual Mode Outputs: 1; SubFamily: DisplayPort; Mounting Technology: Surface Mount; Code_JEDEC: MO-220; ComponentLink1Description: Datasheet; ComponentLink1URL: http://www.ti.com/general/docs/lit/getliterature.tsp?genericPartNumber=SN75DP119&fileType=pdf
footprint RHH36-4100X4100TP (QFN, 36-Leads, Body 6x6mm, Pitch 0.5mm, Thermal Pad 4.15x4.15mm, TI Recommended)
part A pins: 1 GND (power) "Ground", 2 IN0P (in) "DisplayPort Main Link Channel 0 Differential Input", 3 IN0N (in) "DisplayPort Main Link Channel 0 Differential Input", 4 VCC (power) "3.3V Supply", 5 IN1P (in) "DisplayPort Main Link Channel 1 Differential Input", 6 IN1N (in) "DisplayPort Main Link Channel 1 Differential Input", 7 GND (power) "Ground", 14 EN (in) "Enable. This input is a 3-level input. If the input is left open, the internal input biasing pulls the input level to VCC/2. The input can also be pulled high or low externally.[See Datasheet]", 15 EQ_CTL (in) "Configures the EQ input setting for both differential inputs. This input is a 3-level input. If the input is left open, the internal input biasing pulls the input level to VCC/2. [See Datasheet]", 21 GND (power) "Ground", 22 OUT1N (hiz) "DisplayPort Main Link Channel 1 Differential Output", 23 OUT1P (hiz) "DisplayPort Main Link Channel 1 Differential Output", 24 VCC (power) "3.3V Supply", 25 OUT0N (hiz) "DisplayPort Main Link Channel 0 Differential Output", 26 OUT0P (hiz) "DisplayPort Main Link Channel 0 Differential Output", 31 VOD_CTL (in) "Configures the output amplitude VOD level. This input is a 3-level input. If the input is left open, the internal input biasing pulls the input level to VCC/2.[See Datasheet]", 32 GND (power) "Ground", 33 PRE_CTL (in) "Configures the output pre-emphasis level. This input is a 3-level input. If the input is left open, the internal input biasing pulls the input level to VCC/2. [See Datasheet]", 37 EP (power) "Exposed Pad"
part B pins: 8 NC "No Connected.", 9 NC "No Connected.", 10 NC "No Connected.", 11 NC "No Connected.", 12 NC "No Connected.", 13 NC "No Connected.", 16 NC "No Connected.", 17 NC "No Connected.", 18 NC "No Connected.", 19 NC "No Connected.", 20 NC "No Connected.", 27 NC "No Connected.", 28 NC "No Connected.", 29 NC "No Connected.", 30 NC "No Connected.", 34 NC "No Connected.", 35 NC "No Connected.", 36 NC "No Connected."

## SN75DP119RHHT
designator U?
Embedded DisplayPort (eDP) Repeater with 1 Dual Mode Output, -40 to +85 degC, 36-pin QFN (RHH), Green (RoHS & no Sb/Br); Manufacturer: Texas Instruments; PartNumber: SN75DP119RHHT; No. of DisplayPort Dual Mode Inputs: 1; DatasheetVersion: SLLSE12; PackageVersion: revE,  Jun-2011; PackageReference: RHH36-4100X4100TP; PackageDescription: 36-Pin Plastic Quad Flatpack No-Lead, 6 x 6 mm Body, 0.5 mm Pitch; Supplier 1: Digi-Key; Supplier Part Number 1: SN75DP119RHHT-ND; Supplier 2: Newark; Supplier Part Number 2: 55R6877; Supplier 3: Mouser; Supplier Part Number 3: 595-SN75DP119RHHT; No. of DisplayPort Dual Mode Outputs: 1; SubFamily: DisplayPort; Mounting Technology: Surface Mount; Code_JEDEC: MO-220; ComponentLink1Description: Datasheet; ComponentLink1URL: http://www.ti.com/general/docs/lit/getliterature.tsp?genericPartNumber=SN75DP119&fileType=pdf
footprint RHH36-4100X4100TP (QFN, 36-Leads, Body 6x6mm, Pitch 0.5mm, Thermal Pad 4.15x4.15mm, TI Recommended)
part A pins: 1 GND (power) "Ground", 2 IN0P (in) "DisplayPort Main Link Channel 0 Differential Input", 3 IN0N (in) "DisplayPort Main Link Channel 0 Differential Input", 4 VCC (power) "3.3V Supply", 5 IN1P (in) "DisplayPort Main Link Channel 1 Differential Input", 6 IN1N (in) "DisplayPort Main Link Channel 1 Differential Input", 7 GND (power) "Ground", 14 EN (in) "Enable. This input is a 3-level input. If the input is left open, the internal input biasing pulls the input level to VCC/2. The input can also be pulled high or low externally.[See Datasheet]", 15 EQ_CTL (in) "Configures the EQ input setting for both differential inputs. This input is a 3-level input. If the input is left open, the internal input biasing pulls the input level to VCC/2. [See Datasheet]", 21 GND (power) "Ground", 22 OUT1N (hiz) "DisplayPort Main Link Channel 1 Differential Output", 23 OUT1P (hiz) "DisplayPort Main Link Channel 1 Differential Output", 24 VCC (power) "3.3V Supply", 25 OUT0N (hiz) "DisplayPort Main Link Channel 0 Differential Output", 26 OUT0P (hiz) "DisplayPort Main Link Channel 0 Differential Output", 31 VOD_CTL (in) "Configures the output amplitude VOD level. This input is a 3-level input. If the input is left open, the internal input biasing pulls the input level to VCC/2.[See Datasheet]", 32 GND (power) "Ground", 33 PRE_CTL (in) "Configures the output pre-emphasis level. This input is a 3-level input. If the input is left open, the internal input biasing pulls the input level to VCC/2. [See Datasheet]", 37 EP (power) "Exposed Pad"
part B pins: 8 NC "No Connected.", 9 NC "No Connected.", 10 NC "No Connected.", 11 NC "No Connected.", 12 NC "No Connected.", 13 NC "No Connected.", 16 NC "No Connected.", 17 NC "No Connected.", 18 NC "No Connected.", 19 NC "No Connected.", 20 NC "No Connected.", 27 NC "No Connected.", 28 NC "No Connected.", 29 NC "No Connected.", 30 NC "No Connected.", 34 NC "No Connected.", 35 NC "No Connected.", 36 NC "No Connected."

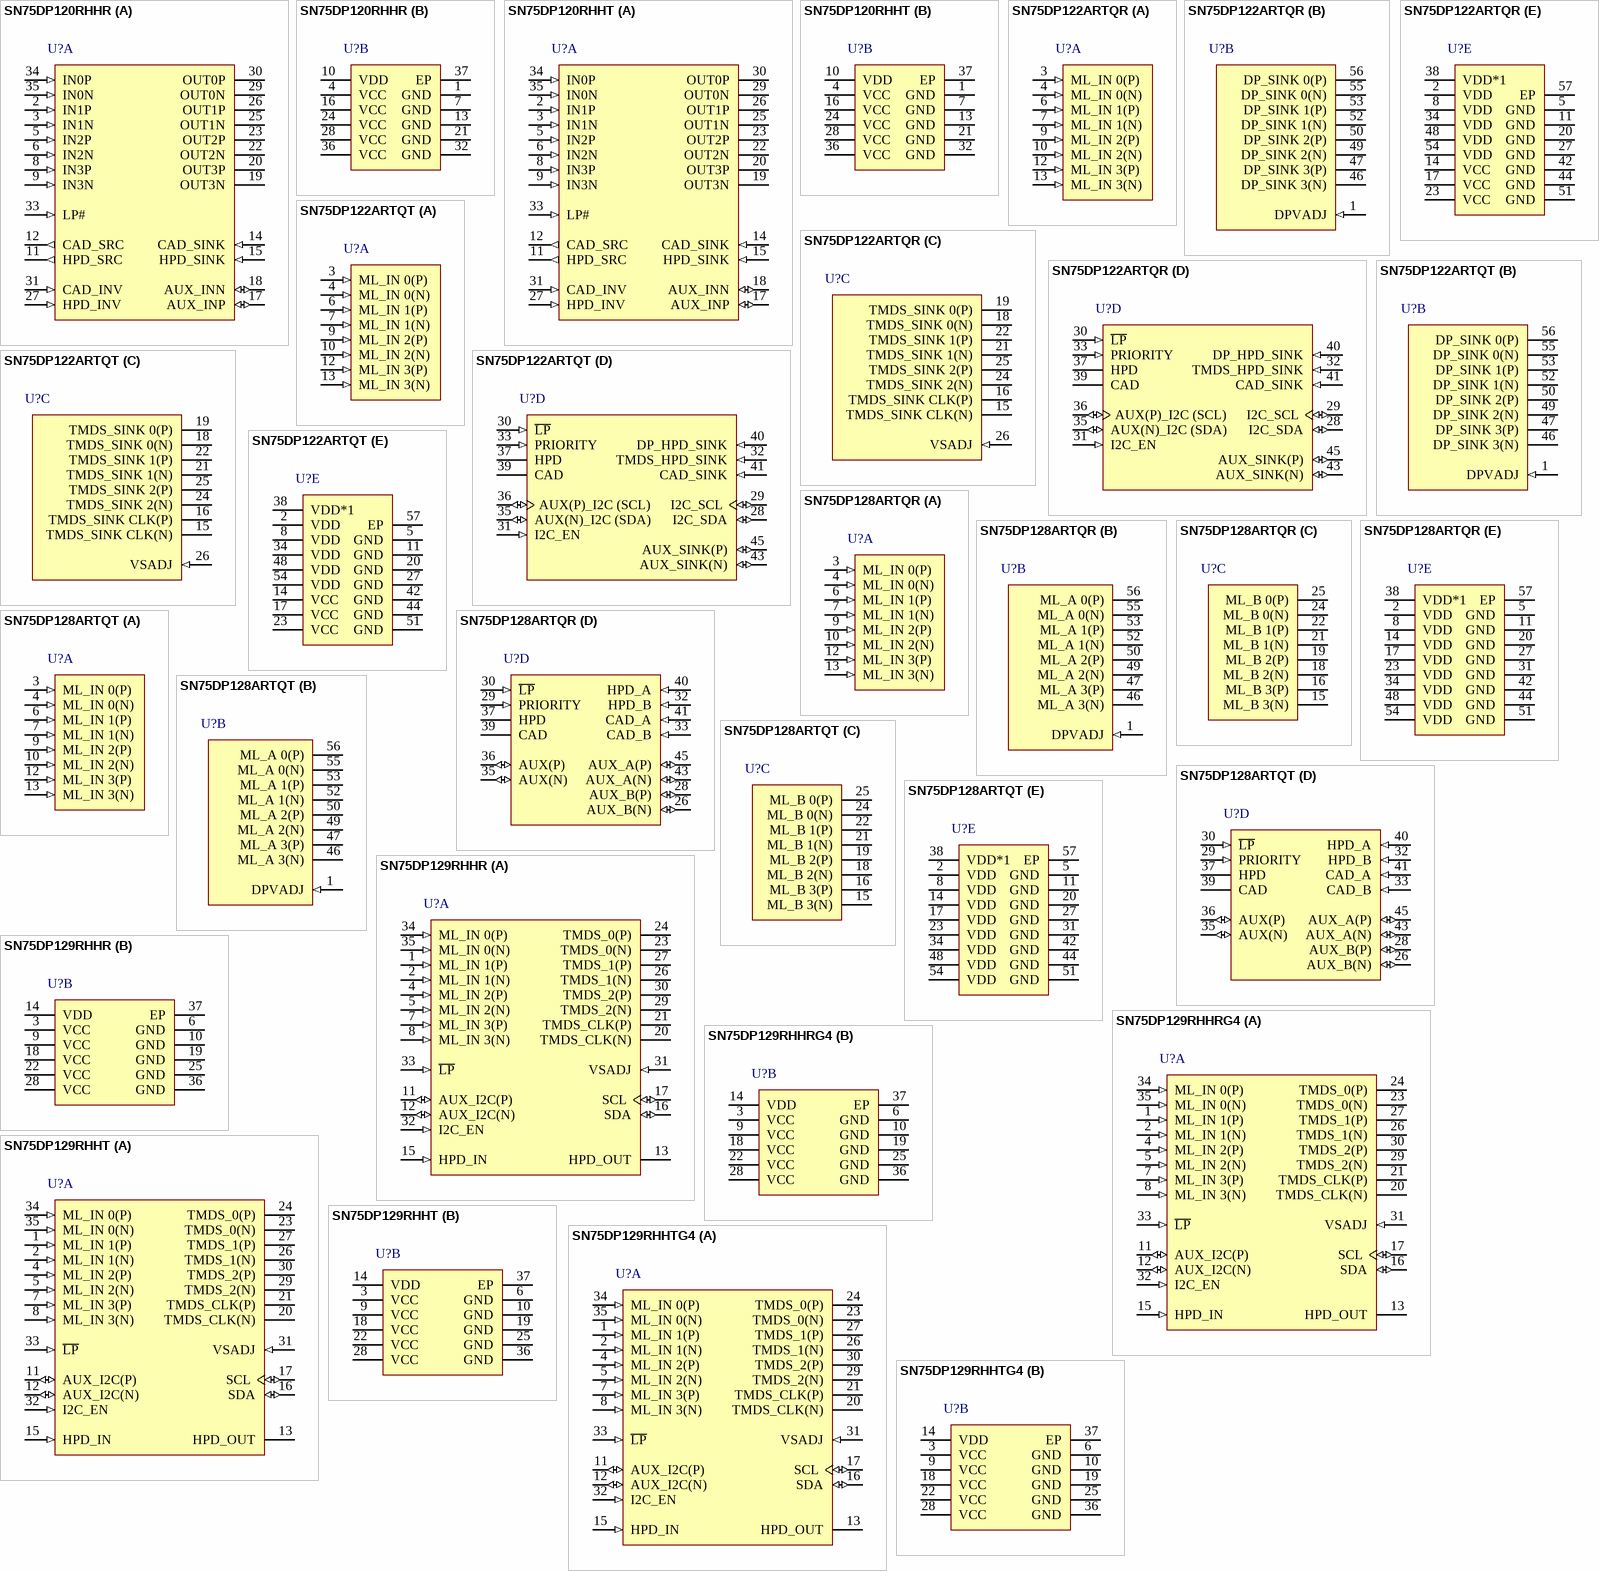
[diagram p4: symbols SN75DP120RHHR to SN75DP129RHHTG4]